# Altium integrated library Supernova Sensors.IntLib: 23 symbols
Pins are listed as number, name and electrical type; pins without a type are passive.

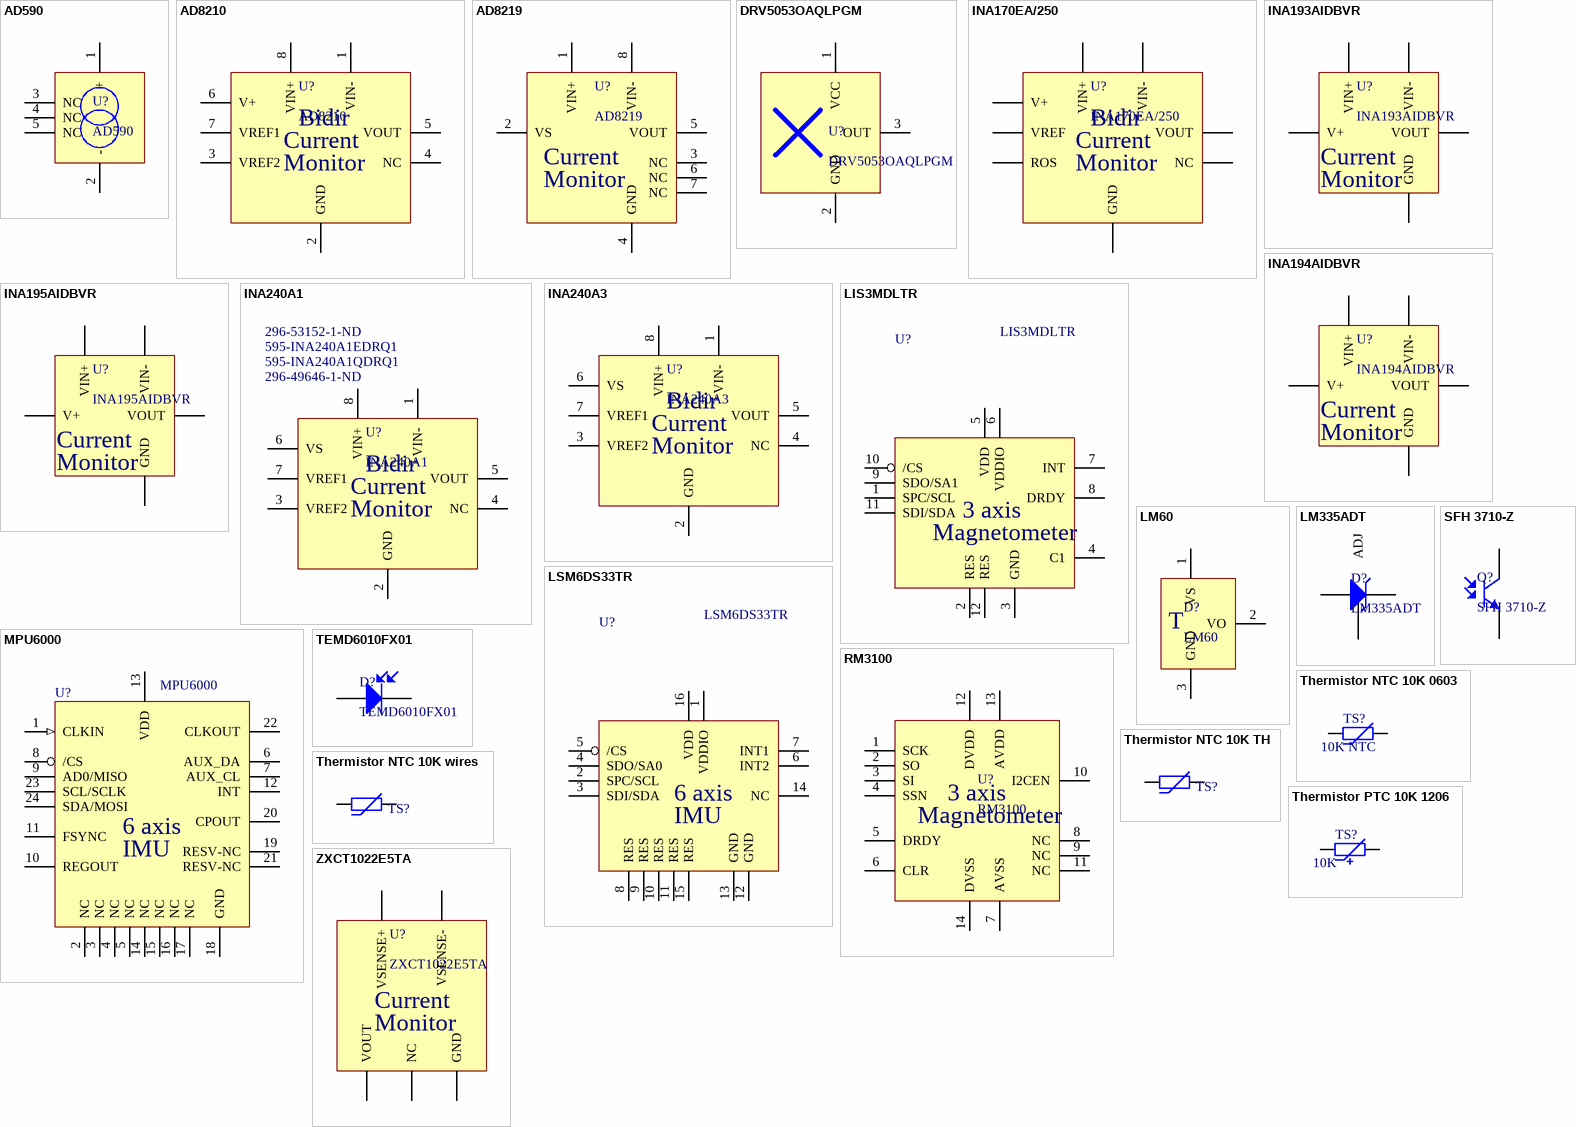
[diagram p0: symbols AD590 to ZXCT1022E5TA]

## AD590
designator U?
Temperature Sensor; Supplier 1: Digi-Key; Supplier Part Number 1: 505-AD590JCPZ-R5CT-ND
footprint LFCSP-4 EP (SON, 4-Leads, Body 2.00x3.00mm, Pitch 0.80mm, Thermal Pad 1.55x1.49mm, IPC Medium Density)
pins: 1 +, 2 -, 3 NC, 4 NC, 5 NC

## AD8210
designator U?
Sensor Analog Bidirectional Current Monitor 65V; Supplier 1: Digi-Key; Supplier 2: Digi-Key; Supplier Part Number 2: AD8210WYRZ-ND; Supplier Part Number 1: AD8210YRZ-ND
footprint SOIC-8 (SOIC, 8-Leads, Body 4.90x3.90mm, Pitch 1.27mm, IPC Medium Density)
pins: 1 VIN-, 2 GND, 3 VREF2, 4 NC, 5 VOUT, 6 V+, 7 VREF1, 8 VIN+
text: Bidir; Current; Monitor

## AD8219
designator U?
Sensor Analog Current Monitor Ext. reference; Supplier 1: Digi-Key; Supplier Part Number 1: AD8219BRMZ-RLCT-ND; Supplier 2: Mouser; Supplier Part Number 2: 584-AD8219BRMZ-R
footprint TSOP-8 0.65mm (TSOP, 8-Leads, Body 3.00x3.00mm, Pitch 0.65mm, IPC Medium Density)
pins: 1 VIN+, 2 VS, 3 NC, 4 GND, 5 VOUT, 6 NC, 7 NC, 8 VIN-
text: Current; Monitor

## DRV5053OAQLPGM
designator U?
Sensor Hall Effect; Supplier 1: Digi-Key; Supplier 2: Mouser; Supplier Part Number 1: 296-40059-1-ND; Supplier Part Number 2: 595-DRV5053OAQLPGM
footprint TO-92 (Footprint not found)
pins: 1 VCC, 2 GND, 3 OUT

## INA170EA/250
designator U?
Sensor Analog Bidirectional Current Monitor; Supplier 1: Digi-Key; Supplier 2: Digi-Key; Supplier Part Number 1: 296-28958-1-ND; Supplier Part Number 2: INA170EA/2K5CT-ND
footprint TSOP-8 0.65mm (TSOP, 8-Leads, Body 3.00x3.00mm, Pitch 0.65mm, IPC Medium Density)
pins: 1 VIN-, 2 VIN+, 3 VREF, 4 GND, 5 ROS, 6 VOUT, 7 NC, 8 V+
text: Bidir; Current; Monitor

## INA193AIDBVR
designator U?
Sensor Analog Current Monitor Ext. reference; Supplier 1: Digi-Key; Supplier Part Number 1: 296-26065-1-ND; Supplier 2: Digi-Key; Supplier Part Number 2: INA193AIDBVRG4-ND
footprint SOT23-5 (Footprint not found)
pins: 1 VOUT, 2 GND, 3 VIN+, 4 VIN-, 5 V+
text: Current; Monitor

## INA194AIDBVR
designator U?
Sensor Analog Current Monitor Ext. reference; Supplier 1: Digi-Key; Supplier 2: Digi-Key; Supplier Part Number 1: 296-26066-1-ND; Supplier Part Number 2: 296-22155-1-ND
footprint SOT23-5 (Footprint not found)
pins: 1 VOUT, 2 GND, 3 VIN+, 4 VIN-, 5 V+
text: Current; Monitor

## INA195AIDBVR
designator U?
Sensor Analog Current Monitor Ext. reference; Supplier 1: Digi-Key; Supplier Part Number 1: 296-26067-1-ND; Supplier 2: Digi-Key; Supplier 3: Digi-Key; Supplier Part Number 2: 296-17165-1-ND; Supplier Part Number 3: 296-22156-1-ND
footprint SOT23-5 (Footprint not found)
pins: 1 VOUT, 2 GND, 3 VIN+, 4 VIN-, 5 V+
text: Current; Monitor

## INA240A1
designator U?  Supplier Part Number 1: 296-49646-1-ND  Supplier Part Number 2: 595-INA240A1QDRQ1  Supplier Part Number 3: 595-INA240A1EDRQ1  Supplier Part Number 4: 296-53152-1-ND
Sensor Analog Bidirectional Current Monitor 80V; Supplier 1: Digi-Key; Supplier 2: Mouser; Supplier 3: Mouser; Supplier 4: Digi-Key
footprint SOIC-8 (SOIC, 8-Leads, Body 4.90x3.90mm, Pitch 1.27mm, IPC Medium Density)
pins: 1 VIN-, 2 GND, 3 VREF2, 4 NC, 5 VOUT, 6 VS, 7 VREF1, 8 VIN+
text: Bidir; Current; Monitor

## INA240A3
designator U?
Sensor Analog Bidirectional Current Monitor 80V; Supplier 1: Digi-Key; Supplier Part Number 1: 296-INA240A3QDRQ1CT-ND; Supplier 2: Mouser; Supplier Part Number 2: 595-INA240A3QDRQ1
footprint SOIC-8 (SOIC, 8-Leads, Body 4.90x3.90mm, Pitch 1.27mm, IPC Medium Density)
pins: 1 VIN-, 2 GND, 3 VREF2, 4 NC, 5 VOUT, 6 VS, 7 VREF1, 8 VIN+
text: Bidir; Current; Monitor

## LIS3MDLTR
designator U?
Sensor Digital 3 axis Magnetometer; Supplier 1 Pricing: 15 USD; Supplier 1: Digi-Key; Supplier 2: Digi-Key; Supplier Part Number 1: 497-13892-1-ND; Supplier Part Number 2: 497-17588-1-ND
footprint PQFN-12 0.5mm (PQFN, 12-Leads, Body 2.00x2.00mm, Pitch 0.50mm, IPC Medium Density)
pins: 1 SPC/SCL, 2 RES, 3 GND (power), 4 C1, 5 VDD (power), 6 VDDIO (power), 7 INT, 8 DRDY, 9 SDO/SA1, 10 /CS, 11 SDI/SDA, 12 RES
text: 3 axis; Magnetometer

## LM60
designator D?
Sensor Temperature; Supplier 1: Digi-Key; Supplier 2: Digi-Key; Supplier Part Number 1: 296-LM60QIM3/NOPBCT-ND; Supplier Part Number 2: 296-40246-1-ND
footprint SOT23-3 (SOT23, 3-Leads, Body 2.90x2.45mm, Pitch 0.95mm, IPC Medium Density)
footprint SOT23-3 - tight (SOT23, 3-Leads, Body 2.90x2.45mm, Pitch 0.95mm, IPC Medium Density)
pins: 1 VS, 2 VO, 3 GND
text: T

## LM335ADT
designator D?
Sensor Temperature; Supplier 1: Digi-Key; Supplier Part Number 1: 497-4047-1-ND; Supplier 2: Digi-Key; Supplier 3: Digi-Key; Supplier Part Number 2: LM335AM/NOPB-ND; Supplier Part Number 3: LM335AMX/NOPBCT-ND
footprint SOIC-8 (SOIC, 8-Leads, Body 4.90x3.90mm, Pitch 1.27mm, IPC Medium Density)
pins: 1 hidden to GND, 2 hidden to GND, 3 hidden to GND, 4 A, 5         ADJ, 6 hidden to GND, 7 hidden to GND, 8 K

## LSM6DS33TR
designator U?
Sensor Digital 6 axis IMU; Supplier 1 Pricing: 15 USD; Supplier 1: Digi-Key; Supplier 2: Digi-Key; Supplier Part Number 1: 497-15996-1-ND; Supplier Part Number 2: 497-16910-1-ND
footprint PQFN-16 0.5mm (PQFN, 16-Leads, Body 3.00x3.00mm, Pitch 0.50mm, IPC Medium Density)
pins: 1 VDDIO (power), 2 SPC/SCL, 3 SDI/SDA, 4 SDO/SA0, 5 /CS, 6 INT2, 7 INT1, 8 RES, 9 RES, 10 RES, 11 RES, 12 GND (power), 13 GND (power), 14 NC, 15 RES, 16 VDD (power)
text: 6 axis; IMU

## MPU6000
designator U?
Sensor Digital 6 axis IMU; Manufacturer: InvenSense; Manufacturer Part Number: MPU-6000; Supplier 1 Pricing: 15 USD; Supplier 1: Digi-Key; Supplier Part Number 1: 1428-1005-1-ND; Supplier 2: Digi-Key; Supplier Part Number 2: 1428-1059-1-ND
footprint QFN-24 0.5mm MPU6000 (QFN, 24-Leads, Body 4.1x4.1mm (max), Pitch 0.50mm, IPC Medium Density)
pins: 1 CLKIN (in), 2 NC, 3 NC, 4 NC, 5 NC, 6 AUX_DA, 7 AUX_CL, 8 /CS, 9 AD0/MISO, 10 REGOUT (power), 11 FSYNC, 12 INT, 13 VDD (power), 14 NC, 15 NC, 16 NC, 17 NC, 18 GND (power), 19 RESV-NC, 20 CPOUT, 21 RESV-NC, 22 CLKOUT, 23 SCL/SCLK, 24 SDA/MOSI
text: 6 axis; IMU

## RM3100
designator U?  (no BOM)
Sensor Magnetometer
footprint RM3100 (Footprint not found)
pins: 1 SCK, 2 SO, 3 SI, 4 SSN, 5 DRDY, 6 CLR, 7 AVSS, 8 NC, 9 NC, 10 I2CEN, 11 NC, 12 DVDD, 13 AVDD, 14 DVSS
text: 3 axis; Magnetometer

## SFH 3710-Z
designator Q?
Sensor Phototransistor; Supplier 1: Digi-Key; Supplier 2: Digi-Key; Supplier Part Number 1: 475-2651-1-ND; Supplier Part Number 2: 475-1268-1-ND
footprint 0805 LED-NONE (Footprint not found)
pins: 1 E, 2 C

## TEMD6010FX01
designator D?
Sensor Photo Diode; Supplier 1: Digi-Key; Supplier Part Number 1: 751-1051-1-ND; Supplier 2: Newark; Supplier 3: Mouser; Supplier Part Number 2: 54M1261; Supplier Part Number 3: 782-TEMD6010FX01
footprint TEMD6010FX01 (Footprint not found)
pins: 1 A, 2 K

## Thermistor NTC 10K 0603
designator TS?, comment 10K NTC
0603 10K NTC Chip Thermistor; Mass_g: 0.0081; Revision: Altium ETH 11-03.2008; Value: 10K NTC; Supplier 1: Digi-Key; Supplier Part Number 1: 445-174516-1-ND; Supplier 2: Newark; Supplier Part Number 2: 51T4415; Supplier 3: Newark; Supplier Part Number 3: 69AH1709
footprint 0603 RES (Footprint not found)
footprint 0603 RES - SM Defined (Chip Resistor, 2-Leads, Body 1.60x0.85mm, IPC Medium Density)
pins: 1, 2
1 alternate drawing of the same symbol

## Thermistor NTC 10K TH
designator TS?, comment 10K NTC, 1%  (value not drawn)
Thermistor NTC 10K OHMS TH; Manufacturer Part Number: NTCLE413E2103F102L; Manufacturer: Vishay BC Components; Mass_g: 0.1; Package / Case: Bead / THT; Operating Temperature: -40°C ~ 105°C; Supplier 1: Digi-Key; Supplier Part Number 1: BC2941-ND; Supplier 2: Mouser; Supplier Part Number 2: 594-NTCLE213E3103FLB
footprint TH Thermistor
pins: 1, 2

## Thermistor NTC 10K wires
designator TS?, comment 10K NTC, 1%  (value not drawn)  (no BOM)
Thermistor NTC 10K OHMS WIRE; Manufacturer Part Number: NTCLE413E2103F102L; Manufacturer: Vishay BC Components; Supplier Part Number 1: BC2647-ND; Package / Case: Bead / THT; Supplier 1: Digi-Key; Operating Temperature: -40°C ~ 105°C; Supplier 2: Digi-Key; Supplier Part Number 2: 317-1376-ND
footprint Wire Thermistor
pins: 1, 2

## Thermistor PTC 10K 1206
designator TS?, comment 10K
1206 10K PTC Chip Thermistor; Revision: Altium ETH 11-03.2008; Value: 10K; Supplier 1: Digi-Key; Supplier 2: Digi-Key; Supplier Part Number 1: 541-1189-1-ND; Supplier Part Number 2: 541-3533-1-ND
footprint 1206 RES (Footprint not found)
pins: 1, 2
1 alternate drawing of the same symbol

## ZXCT1022E5TA
designator U?
Sensor Analog Current Monitor; Supplier 1: Digi-Key; Supplier Part Number 1: ZXCT1022E5TACT-ND; Supplier 2: Mouser; Supplier Part Number 2: 522-ZXCT1022E5TA
footprint SOT23-5 (Footprint not found)
pins: 1 NC, 2 GND, 3 VOUT, 4 VSENSE+, 5 VSENSE-
text: Current; Monitor